# Altium footprint library con-wago.PCBLIB: 167 footprints (part 11 of 11)
Each footprint in its own frame and in the unit in brackets; x right, y up, seen from the top. Pads: shape width x height; smd on the part's side, far side on the other; paste and mask are expansions set on the pad; w line width, h text height; cw(c..) or ccw(c..) is an arc to the next point about the centre after c.
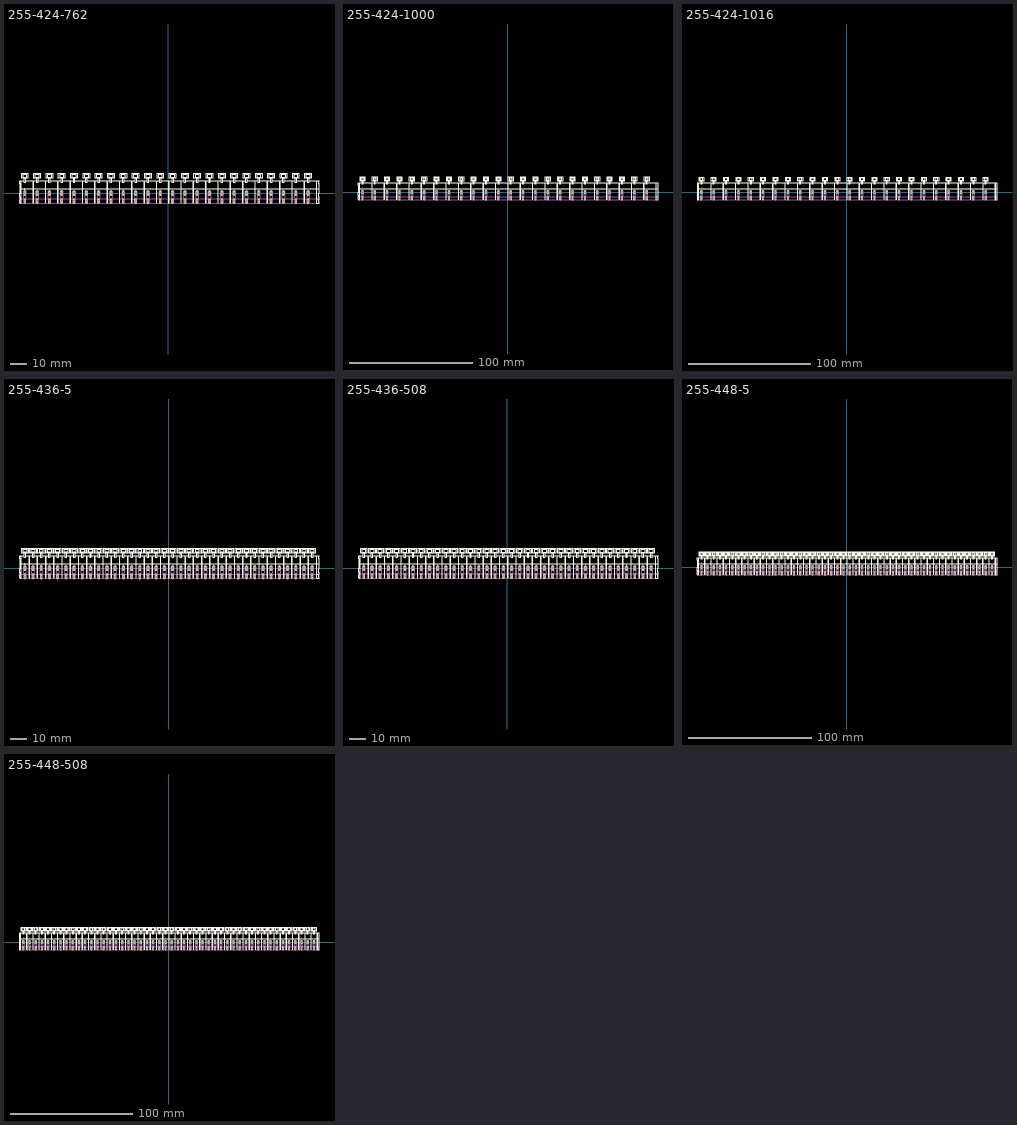
[diagram p10: the footprints below, top view; thin cyan lines are the x and y axes]

## 255-424-762 [mm]
pads (48):
  oval 1.8x3.6 hole 1.2: A1(-88.9,0) A2(-81.28,0) A3(-73.66,0) A4(-66.04,0) A5(-58.42,0) A6(-50.8,0) A7(-43.18,0) A8(-35.56,0) A9(-27.94,0) A10(-20.32,0) A11(-12.7,0) A12(-5.08,0) A13(2.54,0) A14(10.16,0) A15(17.78,0) A16(25.4,0) A17(33.02,0) A18(40.64,0) A19(48.26,0) A20(55.88,0) A21(63.5,0) A22(71.12,0) A23(78.74,0) A24(86.36,0) B1(-88.9,-5) B2(-81.28,-5) B3(-73.66,-5) B4(-66.04,-5) B5(-58.42,-5) B6(-50.8,-5) B7(-43.18,-5) B8(-35.56,-5) B9(-27.94,-5) B10(-20.32,-5) B11(-12.7,-5) B12(-5.08,-5) B13(2.54,-5) B14(10.16,-5) B15(17.78,-5) B16(25.4,-5) B17(33.02,-5) B18(40.64,-5) B19(48.26,-5) B20(55.88,-5) B21(63.5,-5) B22(71.12,-5) B23(78.74,-5) B24(86.36,-5)
Top Overlay:
  drawing of 420 lines, arcs and shapes, not listed
  text "1" at -89.15,1.35 h1.26
Mechanical 16:
  lines w0.203: -91.4,-3.65 91.38,-3.65 ; -91.25,-6.2 91.38,-6.2 ; -89.85,-3.05 -89.85,0.75 -87.9,0.75 -87.9,-3.05 -89.85,-3.05 ; -82.23,-3.05 -82.23,0.75 -80.28,0.75 -80.28,-3.05 -82.23,-3.05 ; -74.61,-3.05 -74.61,0.75 -72.66,0.75 -72.66,-3.05 -74.61,-3.05 ; -66.99,-3.05 -66.99,0.75 -65.04,0.75 -65.04,-3.05 -66.99,-3.05 ; -59.37,-3.05 -59.37,0.75 -57.42,0.75 -57.42,-3.05 -59.37,-3.05 ; -51.75,-3.05 -51.75,0.75 -49.8,0.75 -49.8,-3.05 -51.75,-3.05 ; -44.13,-3.05 -44.13,0.75 -42.18,0.75 -42.18,-3.05 -44.13,-3.05 ; -36.51,-3.05 -36.51,0.75 -34.56,0.75 -34.56,-3.05 -36.51,-3.05 ; -28.89,-3.05 -28.89,0.75 -26.94,0.75 -26.94,-3.05 -28.89,-3.05 ; -21.27,-3.05 -21.27,0.75 -19.32,0.75 -19.32,-3.05 -21.27,-3.05 ; -13.65,-3.05 -13.65,0.75 -11.7,0.75 -11.7,-3.05 -13.65,-3.05 ; -6.03,-3.05 -6.03,0.75 -4.08,0.75 -4.08,-3.05 -6.03,-3.05 ; 1.59,-3.05 1.59,0.75 3.54,0.75 3.54,-3.05 1.59,-3.05 ; 9.21,-3.05 9.21,0.75 11.16,0.75 11.16,-3.05 9.21,-3.05 ; 16.83,-3.05 16.83,0.75 18.78,0.75 18.78,-3.05 16.83,-3.05 ; 24.45,-3.05 24.45,0.75 26.4,0.75 26.4,-3.05 24.45,-3.05 ; 32.07,-3.05 32.07,0.75 34.02,0.75 34.02,-3.05 32.07,-3.05 ; 39.69,-3.05 39.69,0.75 41.64,0.75 41.64,-3.05 39.69,-3.05 ; 47.31,-3.05 47.31,0.75 49.26,0.75 49.26,-3.05 47.31,-3.05 ; 54.93,-3.05 54.93,0.75 56.88,0.75 56.88,-3.05 54.93,-3.05 ; 62.55,-3.05 62.55,0.75 64.5,0.75 64.5,-3.05 62.55,-3.05 ; 70.17,-3.05 70.17,0.75 72.12,0.75 72.12,-3.05 70.17,-3.05 ; 77.79,-3.05 77.79,0.75 79.74,0.75 79.74,-3.05 77.79,-3.05 ; 85.41,-3.05 85.41,0.75 87.36,0.75 87.36,-3.05 85.41,-3.05

## 255-424-1000 [mm]
pads (48):
  oval 1.8x3.6 hole 1.2: A1(-117.5,0) A2(-107.5,0) A3(-97.5,0) A4(-87.5,0) A5(-77.5,0) A6(-67.5,0) A7(-57.5,0) A8(-47.5,0) A9(-37.5,0) A10(-27.5,0) A11(-17.5,0) A12(-7.5,0) A13(2.5,0) A14(12.5,0) A15(22.5,0) A16(32.5,0) A17(42.5,0) A18(52.5,0) A19(62.5,0) A20(72.5,0) A21(82.5,0) A22(92.5,0) A23(102.5,0) A24(112.5,0) B1(-117.5,-5) B2(-107.5,-5) B3(-97.5,-5) B4(-87.5,-5) B5(-77.5,-5) B6(-67.5,-5) B7(-57.5,-5) B8(-47.5,-5) B9(-37.5,-5) B10(-27.5,-5) B11(-17.5,-5) B12(-7.5,-5) B13(2.5,-5) B14(12.5,-5) B15(22.5,-5) B16(32.5,-5) B17(42.5,-5) B18(52.5,-5) B19(62.5,-5) B20(72.5,-5) B21(82.5,-5) B22(92.5,-5) B23(102.5,-5) B24(112.5,-5)
Top Overlay:
  drawing of 419 lines, arcs and shapes, not listed
  text "1" at -117.75,1.35 h1.26
Mechanical 16:
  lines w0.203: -120,-3.65 119.9,-3.65 ; -119.85,-6.2 119.9,-6.2 ; -118.45,-3.05 -118.45,0.75 -116.5,0.75 -116.5,-3.05 -118.45,-3.05 ; -108.5,-3.05 -108.5,0.75 -106.5,0.75 -106.5,-3.05 -108.5,-3.05 ; -98.5,-3.05 -98.5,0.75 -96.5,0.75 -96.5,-3.05 -98.5,-3.05 ; -88.5,-3.05 -88.5,0.75 -86.5,0.75 -86.5,-3.05 -88.5,-3.05 ; -78.5,-3.05 -78.5,0.75 -76.5,0.75 -76.5,-3.05 -78.5,-3.05 ; -68.5,-3.05 -68.5,0.75 -66.5,0.75 -66.5,-3.05 -68.5,-3.05 ; -58.5,-3.05 -58.5,0.75 -56.5,0.75 -56.5,-3.05 -58.5,-3.05 ; -48.5,-3.05 -48.5,0.75 -46.5,0.75 -46.5,-3.05 -48.5,-3.05 ; -38.5,-3.05 -38.5,0.75 -36.5,0.75 -36.5,-3.05 -38.5,-3.05 ; -28.5,-3.05 -28.5,0.75 -26.5,0.75 -26.5,-3.05 -28.5,-3.05 ; -18.5,-3.05 -18.5,0.75 -16.5,0.75 -16.5,-3.05 -18.5,-3.05 ; -8.5,-3.05 -8.5,0.75 -6.5,0.75 -6.5,-3.05 -8.5,-3.05 ; 1.5,-3.05 1.5,0.75 3.5,0.75 3.5,-3.05 1.5,-3.05 ; 11.5,-3.05 11.5,0.75 13.5,0.75 13.5,-3.05 11.5,-3.05 ; 21.5,-3.05 21.5,0.75 23.5,0.75 23.5,-3.05 21.5,-3.05 ; 31.5,-3.05 31.5,0.75 33.5,0.75 33.5,-3.05 31.5,-3.05 ; 41.5,-3.05 41.5,0.75 43.5,0.75 43.5,-3.05 41.5,-3.05 ; 51.5,-3.05 51.5,0.75 53.5,0.75 53.5,-3.05 51.5,-3.05 ; 61.5,-3.05 61.5,0.75 63.5,0.75 63.5,-3.05 61.5,-3.05 ; 71.5,-3.05 71.5,0.75 73.5,0.75 73.5,-3.05 71.5,-3.05 ; 81.5,-3.05 81.5,0.75 83.5,0.75 83.5,-3.05 81.5,-3.05 ; 91.5,-3.05 91.5,0.75 93.5,0.75 93.5,-3.05 91.5,-3.05 ; 101.5,-3.05 101.5,0.75 103.5,0.75 103.5,-3.05 101.5,-3.05 ; 111.5,-3.05 111.5,0.75 113.5,0.75 113.5,-3.05 111.5,-3.05

## 255-424-1016 [mm]
pads (48):
  oval 1.8x3.6 hole 1.2: A1(-119.38,0) A2(-109.22,0) A3(-99.06,0) A4(-88.9,0) A5(-78.74,0) A6(-68.58,0) A7(-58.42,0) A8(-48.26,0) A9(-38.1,0) A10(-27.94,0) A11(-17.78,0) A12(-7.62,0) A13(2.54,0) A14(12.7,0) A15(22.86,0) A16(33.02,0) A17(43.18,0) A18(53.34,0) A19(63.5,0) A20(73.66,0) A21(83.82,0) A22(93.98,0) A23(104.14,0) A24(114.3,0) B1(-119.38,-5) B2(-109.22,-5) B3(-99.06,-5) B4(-88.9,-5) B5(-78.74,-5) B6(-68.58,-5) B7(-58.42,-5) B8(-48.26,-5) B9(-38.1,-5) B10(-27.94,-5) B11(-17.78,-5) B12(-7.62,-5) B13(2.54,-5) B14(12.7,-5) B15(22.86,-5) B16(33.02,-5) B17(43.18,-5) B18(53.34,-5) B19(63.5,-5) B20(73.66,-5) B21(83.82,-5) B22(93.98,-5) B23(104.14,-5) B24(114.3,-5)
Top Overlay:
  drawing of 420 lines, arcs and shapes, not listed
  text "1" at -119.63,1.35 h1.26
Mechanical 16:
  lines w0.203: -121.88,-3.65 121.86,-3.65 ; -121.73,-6.2 121.86,-6.2 ; -120.33,-3.05 -120.33,0.75 -118.38,0.75 -118.38,-3.05 -120.33,-3.05 ; -110.17,-3.05 -110.17,0.75 -108.22,0.75 -108.22,-3.05 -110.17,-3.05 ; -100.01,-3.05 -100.01,0.75 -98.06,0.75 -98.06,-3.05 -100.01,-3.05 ; -89.85,-3.05 -89.85,0.75 -87.9,0.75 -87.9,-3.05 -89.85,-3.05 ; -79.69,-3.05 -79.69,0.75 -77.74,0.75 -77.74,-3.05 -79.69,-3.05 ; -69.53,-3.05 -69.53,0.75 -67.58,0.75 -67.58,-3.05 -69.53,-3.05 ; -59.37,-3.05 -59.37,0.75 -57.42,0.75 -57.42,-3.05 -59.37,-3.05 ; -49.21,-3.05 -49.21,0.75 -47.26,0.75 -47.26,-3.05 -49.21,-3.05 ; -39.05,-3.05 -39.05,0.75 -37.1,0.75 -37.1,-3.05 -39.05,-3.05 ; -28.89,-3.05 -28.89,0.75 -26.94,0.75 -26.94,-3.05 -28.89,-3.05 ; -18.73,-3.05 -18.73,0.75 -16.78,0.75 -16.78,-3.05 -18.73,-3.05 ; -8.57,-3.05 -8.57,0.75 -6.62,0.75 -6.62,-3.05 -8.57,-3.05 ; 1.59,-3.05 1.59,0.75 3.54,0.75 3.54,-3.05 1.59,-3.05 ; 11.75,-3.05 11.75,0.75 13.7,0.75 13.7,-3.05 11.75,-3.05 ; 21.91,-3.05 21.91,0.75 23.86,0.75 23.86,-3.05 21.91,-3.05 ; 32.07,-3.05 32.07,0.75 34.02,0.75 34.02,-3.05 32.07,-3.05 ; 42.23,-3.05 42.23,0.75 44.18,0.75 44.18,-3.05 42.23,-3.05 ; 52.39,-3.05 52.39,0.75 54.34,0.75 54.34,-3.05 52.39,-3.05 ; 62.55,-3.05 62.55,0.75 64.5,0.75 64.5,-3.05 62.55,-3.05 ; 72.71,-3.05 72.71,0.75 74.66,0.75 74.66,-3.05 72.71,-3.05 ; 82.87,-3.05 82.87,0.75 84.82,0.75 84.82,-3.05 82.87,-3.05 ; 93.03,-3.05 93.03,0.75 94.98,0.75 94.98,-3.05 93.03,-3.05 ; 103.19,-3.05 103.19,0.75 105.14,0.75 105.14,-3.05 103.19,-3.05 ; 113.35,-3.05 113.35,0.75 115.3,0.75 115.3,-3.05 113.35,-3.05

## 255-436-5 [mm]
pads (72):
  oval 1.8x3.6 hole 1.2: A1(-87.5,0) A2(-82.5,0) A3(-77.5,0) A4(-72.5,0) A5(-67.5,0) A6(-62.5,0) A7(-57.5,0) A8(-52.5,0) A9(-47.5,0) A10(-42.5,0) A11(-37.5,0) A12(-32.5,0) A13(-27.5,0) A14(-22.5,0) A15(-17.5,0) A16(-12.5,0) A17(-7.5,0) A18(-2.5,0) A19(2.5,0) A20(7.5,0) A21(12.5,0) A22(17.5,0) A23(22.5,0) A24(27.5,0) A25(32.5,0) A26(37.5,0) A27(42.5,0) A28(47.5,0) A29(52.5,0) A30(57.5,0) A31(62.5,0) A32(67.5,0) A33(72.5,0) A34(77.5,0) A35(82.5,0) A36(87.5,0) B1(-87.5,-5) B2(-82.5,-5) B3(-77.5,-5) B4(-72.5,-5) B5(-67.5,-5) B6(-62.5,-5) B7(-57.5,-5) B8(-52.5,-5) B9(-47.5,-5) B10(-42.5,-5) B11(-37.5,-5) B12(-32.5,-5) B13(-27.5,-5) B14(-22.5,-5) B15(-17.5,-5) B16(-12.5,-5) B17(-7.5,-5) B18(-2.5,-5) B19(2.5,-5) B20(7.5,-5) B21(12.5,-5) B22(17.5,-5) B23(22.5,-5) B24(27.5,-5) B25(32.5,-5) B26(37.5,-5) B27(42.5,-5) B28(47.5,-5) B29(52.5,-5) B30(57.5,-5) B31(62.5,-5) B32(67.5,-5) B33(72.5,-5) B34(77.5,-5) B35(82.5,-5) B36(87.5,-5)
Top Overlay:
  drawing of 754 lines, arcs and shapes, not listed
  text "1" at -87.75,1.35 h1.26
Mechanical 16:
  lines w0.203: -90,-3.65 -30.1,-3.65 ; -89.85,-6.2 -30.1,-6.2 ; -30,-3.65 29.9,-3.65 ; -29.85,-6.2 29.9,-6.2 ; 30,-3.65 89.9,-3.65 ; 30.15,-6.2 89.9,-6.2 ; -88.45,-3.05 -88.45,0.75 -86.5,0.75 -86.5,-3.05 -88.45,-3.05 ; -83.5,-3.05 -83.5,0.75 -81.5,0.75 -81.5,-3.05 -83.5,-3.05 ; -78.5,-3.05 -78.5,0.75 -76.5,0.75 -76.5,-3.05 -78.5,-3.05 ; -73.5,-3.05 -73.5,0.75 -71.5,0.75 -71.5,-3.05 -73.5,-3.05 ; -68.5,-3.05 -68.5,0.75 -66.5,0.75 -66.5,-3.05 -68.5,-3.05 ; -63.5,-3.05 -63.5,0.75 -61.5,0.75 -61.5,-3.05 -63.5,-3.05 ; -58.5,-3.05 -58.5,0.75 -56.5,0.75 -56.5,-3.05 -58.5,-3.05 ; -53.5,-3.05 -53.5,0.75 -51.5,0.75 -51.5,-3.05 -53.5,-3.05 ; -48.5,-3.05 -48.5,0.75 -46.5,0.75 -46.5,-3.05 -48.5,-3.05 ; -43.5,-3.05 -43.5,0.75 -41.5,0.75 -41.5,-3.05 -43.5,-3.05 ; -38.5,-3.05 -38.5,0.75 -36.5,0.75 -36.5,-3.05 -38.5,-3.05 ; -33.5,-3.05 -33.5,0.75 -31.5,0.75 -31.5,-3.05 -33.5,-3.05 ; -28.45,-3.05 -28.45,0.75 -26.5,0.75 -26.5,-3.05 -28.45,-3.05 ; -23.5,-3.05 -23.5,0.75 -21.5,0.75 -21.5,-3.05 -23.5,-3.05 ; -18.5,-3.05 -18.5,0.75 -16.5,0.75 -16.5,-3.05 -18.5,-3.05 ; -13.5,-3.05 -13.5,0.75 -11.5,0.75 -11.5,-3.05 -13.5,-3.05 ; -8.5,-3.05 -8.5,0.75 -6.5,0.75 -6.5,-3.05 -8.5,-3.05 ; -3.5,-3.05 -3.5,0.75 -1.5,0.75 -1.5,-3.05 -3.5,-3.05 ; 1.5,-3.05 1.5,0.75 3.5,0.75 3.5,-3.05 1.5,-3.05 ; 6.5,-3.05 6.5,0.75 8.5,0.75 8.5,-3.05 6.5,-3.05 ; 11.5,-3.05 11.5,0.75 13.5,0.75 13.5,-3.05 11.5,-3.05 ; 16.5,-3.05 16.5,0.75 18.5,0.75 18.5,-3.05 16.5,-3.05 ; 21.5,-3.05 21.5,0.75 23.5,0.75 23.5,-3.05 21.5,-3.05 ; 26.5,-3.05 26.5,0.75 28.5,0.75 28.5,-3.05 26.5,-3.05 ; 31.55,-3.05 31.55,0.75 33.5,0.75 33.5,-3.05 31.55,-3.05 ; 36.5,-3.05 36.5,0.75 38.5,0.75 38.5,-3.05 36.5,-3.05 ; 41.5,-3.05 41.5,0.75 43.5,0.75 43.5,-3.05 41.5,-3.05 ; 46.5,-3.05 46.5,0.75 48.5,0.75 48.5,-3.05 46.5,-3.05 ; 51.5,-3.05 51.5,0.75 53.5,0.75 53.5,-3.05 51.5,-3.05 ; 56.5,-3.05 56.5,0.75 58.5,0.75 58.5,-3.05 56.5,-3.05 ; 61.5,-3.05 61.5,0.75 63.5,0.75 63.5,-3.05 61.5,-3.05 ; 66.5,-3.05 66.5,0.75 68.5,0.75 68.5,-3.05 66.5,-3.05 ; 71.5,-3.05 71.5,0.75 73.5,0.75 73.5,-3.05 71.5,-3.05 ; 76.5,-3.05 76.5,0.75 78.5,0.75 78.5,-3.05 76.5,-3.05 ; 81.5,-3.05 81.5,0.75 83.5,0.75 83.5,-3.05 81.5,-3.05 ; 86.5,-3.05 86.5,0.75 88.5,0.75 88.5,-3.05 86.5,-3.05

## 255-436-508 [mm]
pads (72):
  oval 1.8x3.6 hole 1.2: A1(-88.9,0) A2(-83.82,0) A3(-78.74,0) A4(-73.66,0) A5(-68.58,0) A6(-63.5,0) A7(-58.42,0) A8(-53.34,0) A9(-48.26,0) A10(-43.18,0) A11(-38.1,0) A12(-33.02,0) A13(-27.94,0) A14(-22.86,0) A15(-17.78,0) A16(-12.7,0) A17(-7.62,0) A18(-2.54,0) A19(2.54,0) A20(7.62,0) A21(12.7,0) A22(17.78,0) A23(22.86,0) A24(27.94,0) A25(33.02,0) A26(38.1,0) A27(43.18,0) A28(48.26,0) A29(53.34,0) A30(58.42,0) A31(63.5,0) A32(68.58,0) A33(73.66,0) A34(78.74,0) A35(83.82,0) A36(88.9,0) B1(-88.9,-5) B2(-83.82,-5) B3(-78.74,-5) B4(-73.66,-5) B5(-68.58,-5) B6(-63.5,-5) B7(-58.42,-5) B8(-53.34,-5) B9(-48.26,-5) B10(-43.18,-5) B11(-38.1,-5) B12(-33.02,-5) B13(-27.94,-5) B14(-22.86,-5) B15(-17.78,-5) B16(-12.7,-5) B17(-7.62,-5) B18(-2.54,-5) B19(2.54,-5) B20(7.62,-5) B21(12.7,-5) B22(17.78,-5) B23(22.86,-5) B24(27.94,-5) B25(33.02,-5) B26(38.1,-5) B27(43.18,-5) B28(48.26,-5) B29(53.34,-5) B30(58.42,-5) B31(63.5,-5) B32(68.58,-5) B33(73.66,-5) B34(78.74,-5) B35(83.82,-5) B36(88.9,-5)
Top Overlay:
  drawing of 614 lines, arcs and shapes, not listed
  text "1" at -89.15,1.35 h1.26
Mechanical 16:
  lines w0.203: -91.4,-3.65 91.38,-3.65 ; -91.25,-6.2 91.38,-6.2 ; -89.85,-3.05 -89.85,0.75 -87.9,0.75 -87.9,-3.05 -89.85,-3.05 ; -84.77,-3.05 -84.77,0.75 -82.82,0.75 -82.82,-3.05 -84.77,-3.05 ; -79.69,-3.05 -79.69,0.75 -77.74,0.75 -77.74,-3.05 -79.69,-3.05 ; -74.61,-3.05 -74.61,0.75 -72.66,0.75 -72.66,-3.05 -74.61,-3.05 ; -69.53,-3.05 -69.53,0.75 -67.58,0.75 -67.58,-3.05 -69.53,-3.05 ; -64.45,-3.05 -64.45,0.75 -62.5,0.75 -62.5,-3.05 -64.45,-3.05 ; -59.37,-3.05 -59.37,0.75 -57.42,0.75 -57.42,-3.05 -59.37,-3.05 ; -54.29,-3.05 -54.29,0.75 -52.34,0.75 -52.34,-3.05 -54.29,-3.05 ; -49.21,-3.05 -49.21,0.75 -47.26,0.75 -47.26,-3.05 -49.21,-3.05 ; -44.13,-3.05 -44.13,0.75 -42.18,0.75 -42.18,-3.05 -44.13,-3.05 ; -39.05,-3.05 -39.05,0.75 -37.1,0.75 -37.1,-3.05 -39.05,-3.05 ; -33.97,-3.05 -33.97,0.75 -32.02,0.75 -32.02,-3.05 -33.97,-3.05 ; -28.89,-3.05 -28.89,0.75 -26.94,0.75 -26.94,-3.05 -28.89,-3.05 ; -23.81,-3.05 -23.81,0.75 -21.86,0.75 -21.86,-3.05 -23.81,-3.05 ; -18.73,-3.05 -18.73,0.75 -16.78,0.75 -16.78,-3.05 -18.73,-3.05 ; -13.65,-3.05 -13.65,0.75 -11.7,0.75 -11.7,-3.05 -13.65,-3.05 ; -8.57,-3.05 -8.57,0.75 -6.62,0.75 -6.62,-3.05 -8.57,-3.05 ; -3.49,-3.05 -3.49,0.75 -1.54,0.75 -1.54,-3.05 -3.49,-3.05 ; 1.59,-3.05 1.59,0.75 3.54,0.75 3.54,-3.05 1.59,-3.05 ; 6.67,-3.05 6.67,0.75 8.62,0.75 8.62,-3.05 6.67,-3.05 ; 11.75,-3.05 11.75,0.75 13.7,0.75 13.7,-3.05 11.75,-3.05 ; 16.83,-3.05 16.83,0.75 18.78,0.75 18.78,-3.05 16.83,-3.05 ; 21.91,-3.05 21.91,0.75 23.86,0.75 23.86,-3.05 21.91,-3.05 ; 26.99,-3.05 26.99,0.75 28.94,0.75 28.94,-3.05 26.99,-3.05 ; 32.07,-3.05 32.07,0.75 34.02,0.75 34.02,-3.05 32.07,-3.05 ; 37.15,-3.05 37.15,0.75 39.1,0.75 39.1,-3.05 37.15,-3.05 ; 42.23,-3.05 42.23,0.75 44.18,0.75 44.18,-3.05 42.23,-3.05 ; 47.31,-3.05 47.31,0.75 49.26,0.75 49.26,-3.05 47.31,-3.05 ; 52.39,-3.05 52.39,0.75 54.34,0.75 54.34,-3.05 52.39,-3.05 ; 57.47,-3.05 57.47,0.75 59.42,0.75 59.42,-3.05 57.47,-3.05 ; 62.55,-3.05 62.55,0.75 64.5,0.75 64.5,-3.05 62.55,-3.05 ; 67.63,-3.05 67.63,0.75 69.58,0.75 69.58,-3.05 67.63,-3.05 ; 72.71,-3.05 72.71,0.75 74.66,0.75 74.66,-3.05 72.71,-3.05 ; 77.79,-3.05 77.79,0.75 79.74,0.75 79.74,-3.05 77.79,-3.05 ; 82.87,-3.05 82.87,0.75 84.82,0.75 84.82,-3.05 82.87,-3.05 ; 87.95,-3.05 87.95,0.75 89.9,0.75 89.9,-3.05 87.95,-3.05

## 255-448-5 [mm]
pads (96):
  oval 1.8x3.6 hole 1.2: A1(-117.5,0) A2(-112.5,0) A3(-107.5,0) A4(-102.5,0) A5(-97.5,0) A6(-92.5,0) A7(-87.5,0) A8(-82.5,0) A9(-77.5,0) A10(-72.5,0) A11(-67.5,0) A12(-62.5,0) A13(-57.5,0) A14(-52.5,0) A15(-47.5,0) A16(-42.5,0) A17(-37.5,0) A18(-32.5,0) A19(-27.5,0) A20(-22.5,0) A21(-17.5,0) A22(-12.5,0) A23(-7.5,0) A24(-2.5,0) A25(2.5,0) A26(7.5,0) A27(12.5,0) A28(17.5,0) A29(22.5,0) A30(27.5,0) A31(32.5,0) A32(37.5,0) A33(42.5,0) A34(47.5,0) A35(52.5,0) A36(57.5,0) A37(62.5,0) A38(67.5,0) A39(72.5,0) A40(77.5,0) A41(82.5,0) A42(87.5,0) A43(92.5,0) A44(97.5,0) A45(102.5,0) A46(107.5,0) A47(112.5,0) A48(117.5,0) B1(-117.5,-5) B2(-112.5,-5) B3(-107.5,-5) B4(-102.5,-5) B5(-97.5,-5) B6(-92.5,-5) B7(-87.5,-5) B8(-82.5,-5) B9(-77.5,-5) B10(-72.5,-5) B11(-67.5,-5) B12(-62.5,-5) B13(-57.5,-5) B14(-52.5,-5) B15(-47.5,-5) B16(-42.5,-5) B17(-37.5,-5) B18(-32.5,-5) B19(-27.5,-5) B20(-22.5,-5) B21(-17.5,-5) B22(-12.5,-5) B23(-7.5,-5) B24(-2.5,-5) B25(2.5,-5) B26(7.5,-5) B27(12.5,-5) B28(17.5,-5) B29(22.5,-5) B30(27.5,-5) B31(32.5,-5) B32(37.5,-5) B33(42.5,-5) B34(47.5,-5) B35(52.5,-5) B36(57.5,-5) B37(62.5,-5) B38(67.5,-5) B39(72.5,-5) B40(77.5,-5) B41(82.5,-5) B42(87.5,-5) B43(92.5,-5) B44(97.5,-5) B45(102.5,-5) B46(107.5,-5) B47(112.5,-5) B48(117.5,-5)
Top Overlay:
  drawing of 992 lines, arcs and shapes, not listed
  text "1" at -117.75,1.35 h1.26
Mechanical 16:
  drawing of 198 lines, arcs and shapes, not listed

## 255-448-508 [mm]
pads (96):
  oval 1.8x3.6 hole 1.2: A1(-119.38,0) A2(-114.3,0) A3(-109.22,0) A4(-104.14,0) A5(-99.06,0) A6(-93.98,0) A7(-88.9,0) A8(-83.82,0) A9(-78.74,0) A10(-73.66,0) A11(-68.58,0) A12(-63.5,0) A13(-58.42,0) A14(-53.34,0) A15(-48.26,0) A16(-43.18,0) A17(-38.1,0) A18(-33.02,0) A19(-27.94,0) A20(-22.86,0) A21(-17.78,0) A22(-12.7,0) A23(-7.62,0) A24(-2.54,0) A25(2.54,0) A26(7.62,0) A27(12.7,0) A28(17.78,0) A29(22.86,0) A30(27.94,0) A31(33.02,0) A32(38.1,0) A33(43.18,0) A34(48.26,0) A35(53.34,0) A36(58.42,0) A37(63.5,0) A38(68.58,0) A39(73.66,0) A40(78.74,0) A41(83.82,0) A42(88.9,0) A43(93.98,0) A44(99.06,0) A45(104.14,0) A46(109.22,0) A47(114.3,0) A48(119.38,0) B1(-119.38,-5) B2(-114.3,-5) B3(-109.22,-5) B4(-104.14,-5) B5(-99.06,-5) B6(-93.98,-5) B7(-88.9,-5) B8(-83.82,-5) B9(-78.74,-5) B10(-73.66,-5) B11(-68.58,-5) B12(-63.5,-5) B13(-58.42,-5) B14(-53.34,-5) B15(-48.26,-5) B16(-43.18,-5) B17(-38.1,-5) B18(-33.02,-5) B19(-27.94,-5) B20(-22.86,-5) B21(-17.78,-5) B22(-12.7,-5) B23(-7.62,-5) B24(-2.54,-5) B25(2.54,-5) B26(7.62,-5) B27(12.7,-5) B28(17.78,-5) B29(22.86,-5) B30(27.94,-5) B31(33.02,-5) B32(38.1,-5) B33(43.18,-5) B34(48.26,-5) B35(53.34,-5) B36(58.42,-5) B37(63.5,-5) B38(68.58,-5) B39(73.66,-5) B40(78.74,-5) B41(83.82,-5) B42(88.9,-5) B43(93.98,-5) B44(99.06,-5) B45(104.14,-5) B46(109.22,-5) B47(114.3,-5) B48(119.38,-5)
Top Overlay:
  drawing of 806 lines, arcs and shapes, not listed
  text "1" at -119.63,1.35 h1.26
Mechanical 16:
  drawing of 194 lines, arcs and shapes, not listed